# Altium integrated library NSC Audio.IntLib: 304 symbols (part 5 of 8)
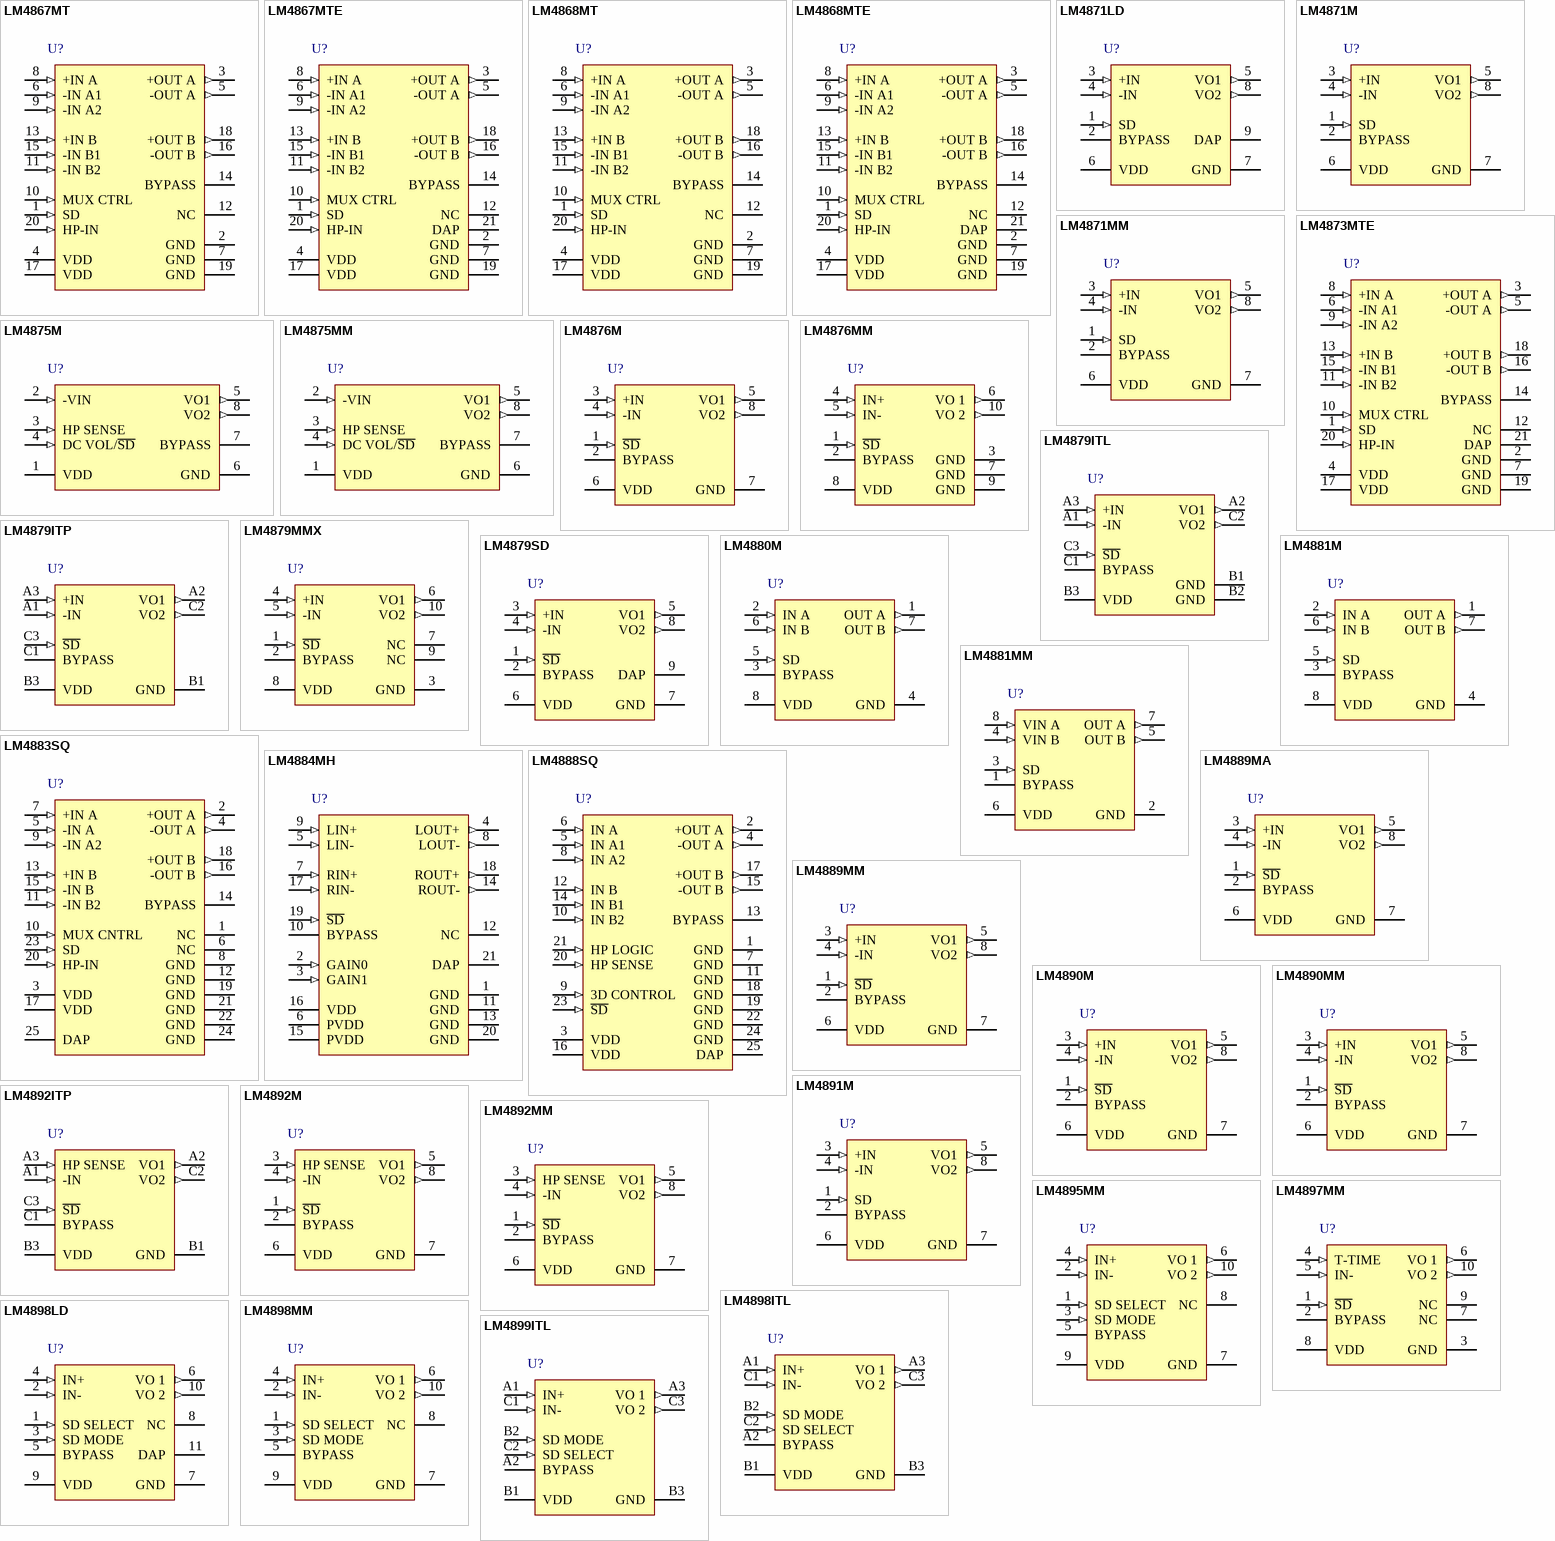
[diagram p16: symbols LM4867MT to LM4899ITL]

## LM4888SQ
designator U?
Dual 2.1W Audio Amplifier Plus Stereo Headphone &amp; 3D Enhancement; PartNumber: LM4888SQ; Manufacturer: National Semiconductor; CompType: Audio IC; PackageTopMarking: NS*UZXYTT*L4888SQ; PowerWise: N; Published: 4-Dec-2008; DatasheetVersion: Mar-2006; PackageVersion: revA, Sep-2003; PackageReference: SQA24C; Publisher: Altium Limited; PackageDescription: LLP, Plastic, Quad, 4 x 4 x 0.8mm Body, 24 Lead, 0.5mm Pitch, No Pullback, Custom; RoHS: Y; PinCount: 24; DigiKeyPartNumber: LM4888SQCT-ND; Code_JEDEC: MO-220-WGGD-2; ComponentLink1Description: LM4888 Datasheet; ComponentLink1URL: http://www.national.com/ds/LM/LM4888.pdf; ComponentLink2Description: LM4888 Web Page; ComponentLink2URL: http://www.national.com/pf/LM/LM4888.html; ComponentLink3Description: SQA24C Package Page; ComponentLink3URL: http://www.national.com/packaging/folders/sqa24c.html
footprint SQA24C (QFN, 24-Leads, Body 4x4mm, Pitch 0.5mm, NSC Recommended)
pins: 1 GND (power), 2 +OUT A (out), 3 VDD (power), 4 -OUT A (out), 5 IN A1 (in), 6 IN A (in), 7 GND (power), 8 IN A2 (in), 9 3D CONTROL (in), 10 IN B2 (in), 11 GND (power), 12 IN B (in), 13 BYPASS, 14 IN B1 (in), 15 -OUT B (out), 16 VDD (power), 17 +OUT B (out), 18 GND (power), 19 GND (power), 20 HP SENSE (in), 21 HP LOGIC (in), 22 GND (power), 23 ~{SD} (in), 24 GND (power), 25 DAP (power)

## LM4889MA
designator U?
1 Watt Audio Power Amplifier; PartNumber: LM4889MA; Manufacturer: National Semiconductor; CompType: Audio IC; PackageTopMarking: NSZXTT*LM48*89MA; PowerWise: N; Published: 4-Dec-2008; DatasheetVersion: Nov-2006; PackageVersion: revL, Sep-2006; PackageReference: M08A; Publisher: Altium Limited; PackageDescription: SOIC Narrow, 4.9 x 3.9 x 1.45mm, 8 Lead, 1.27mm Pitch; RoHS: Y; PinCount: 8; DigiKeyPartNumber: LM4889MA-ND; Code_JEDEC: MS-012-AA; Code_IPC: SOIC127P600-8; ComponentLink1Description: LM4889 Datasheet; ComponentLink1URL: http://www.national.com/ds/LM/LM4889.pdf; ComponentLink2Description: LM4889 Web Page; ComponentLink2URL: http://www.national.com/pf/LM/LM4889.html; ComponentLink3Description: M08A Package Page; ComponentLink3URL: http://www.national.com/packaging/folders/m08a.html
footprint M08A_N (SOIC, 8-Leads, Body 4.9x3.9mm, Pitch 1.27mm, IPC Medium Density)
footprint M08A_L (SOIC, 8-Leads, Body 4.9x3.9mm, Pitch 1.27mm, IPC High Density)
footprint M08A_M (SOIC, 8-Leads, Body 4.9x3.9mm, Pitch 1.27mm, IPC Low Density)
pins: 1 ~{SD} (in), 2 BYPASS, 3 +IN (in), 4 -IN (in), 5 VO1 (out), 6 VDD (power), 7 GND (power), 8 VO2 (out)

## LM4889MM
designator U?
1 Watt Audio Power Amplifier; PartNumber: LM4889MM; Manufacturer: National Semiconductor; CompType: Audio IC; PackageTopMarking: ZXTT*GA2; PowerWise: N; Published: 4-Dec-2008; DatasheetVersion: Nov-2006; PackageVersion: revF, Apr-2008; PackageReference: MUA08A; Publisher: Altium Limited; PackageDescription: MINI SOIC, .118 x .118 x .034in, 8 Lead, .0256in Pitch; RoHS: O; PinCount: 8; DigiKeyPartNumber: LM4889MMCT-ND; Code_JEDEC: MO-187-AA; ComponentLink1Description: LM4889 Datasheet; ComponentLink1URL: http://www.national.com/ds/LM/LM4889.pdf; ComponentLink2Description: LM4889 Web Page; ComponentLink2URL: http://www.national.com/pf/LM/LM4889.html; ComponentLink3Description: MUA08A Package Page; ComponentLink3URL: http://www.national.com/packaging/folders/mua08a.html
footprint MUA08A_N (TSOP, 8-Leads, Body 3x3mm, Pitch 0.65mm, IPC Medium Density)
footprint MUA08A_L (TSOP, 8-Leads, Body 3x3mm, Pitch 0.65mm, IPC High Density)
footprint MUA08A_M (TSOP, 8-Leads, Body 3x3mm, Pitch 0.65mm, IPC Low Density)
pins: 1 ~{SD} (in), 2 BYPASS, 3 +IN (in), 4 -IN (in), 5 VO1 (out), 6 VDD (power), 7 GND (power), 8 VO2 (out)

## LM4890M
designator U?
1 Watt Audio Power Amplifier; PartNumber: LM4890M; Manufacturer: National Semiconductor; CompType: Audio IC; PackageTopMarking: NSZXTT*LM48*90M; PowerWise: N; Published: 4-Dec-2008; DatasheetVersion: Jul-2006; PackageVersion: revL, Sep-2006; PackageReference: M08A; Publisher: Altium Limited; PackageDescription: SOIC Narrow, 4.9 x 3.9 x 1.45mm, 8 Lead, 1.27mm Pitch; RoHS: O; PinCount: 8; DigiKeyPartNumber: LM4890M-ND; Code_JEDEC: MS-012-AA; Code_IPC: SOIC127P600-8; ComponentLink1Description: LM4890 Datasheet; ComponentLink1URL: http://www.national.com/ds/LM/LM4890.pdf; ComponentLink2Description: LM4890 Web Page; ComponentLink2URL: http://www.national.com/pf/LM/LM4890.html; ComponentLink3Description: M08A Package Page; ComponentLink3URL: http://www.national.com/packaging/folders/m08a.html
footprint M08A_N (SOIC, 8-Leads, Body 4.9x3.9mm, Pitch 1.27mm, IPC Medium Density)
footprint M08A_L (SOIC, 8-Leads, Body 4.9x3.9mm, Pitch 1.27mm, IPC High Density)
footprint M08A_M (SOIC, 8-Leads, Body 4.9x3.9mm, Pitch 1.27mm, IPC Low Density)
pins: 1 ~{SD} (in), 2 BYPASS, 3 +IN (in), 4 -IN (in), 5 VO1 (out), 6 VDD (power), 7 GND (power), 8 VO2 (out)

## LM4890MM
designator U?
1 Watt Audio Power Amplifier; PartNumber: LM4890MM; Manufacturer: National Semiconductor; CompType: Audio IC; PackageTopMarking: ZXTT*G90; PowerWise: N; Published: 4-Dec-2008; DatasheetVersion: Jul-2006; PackageVersion: revF, Apr-2008; PackageReference: MUA08A; Publisher: Altium Limited; PackageDescription: MINI SOIC, .118 x .118 x .034in, 8 Lead, .0256in Pitch; RoHS: Y; PinCount: 8; DigiKeyPartNumber: LM4890MMCT-ND; Code_JEDEC: MO-187-AA; ComponentLink1Description: LM4890 Datasheet; ComponentLink1URL: http://www.national.com/ds/LM/LM4890.pdf; ComponentLink2Description: LM4890 Web Page; ComponentLink2URL: http://www.national.com/pf/LM/LM4890.html; ComponentLink3Description: MUA08A Package Page; ComponentLink3URL: http://www.national.com/packaging/folders/mua08a.html
footprint MUA08A_N (TSOP, 8-Leads, Body 3x3mm, Pitch 0.65mm, IPC Medium Density)
footprint MUA08A_L (TSOP, 8-Leads, Body 3x3mm, Pitch 0.65mm, IPC High Density)
footprint MUA08A_M (TSOP, 8-Leads, Body 3x3mm, Pitch 0.65mm, IPC Low Density)
pins: 1 ~{SD} (in), 2 BYPASS, 3 +IN (in), 4 -IN (in), 5 VO1 (out), 6 VDD (power), 7 GND (power), 8 VO2 (out)

## LM4891M
designator U?
1 Watt Audio Power Amplifier; PartNumber: LM4891M; Manufacturer: National Semiconductor; CompType: Audio IC; PackageTopMarking: NSZXTT*LM48*91M; PowerWise: N; Published: 4-Dec-2008; DatasheetVersion: Oct-2002; PackageVersion: revL, Sep-2006; PackageReference: M08A; Publisher: Altium Limited; PackageDescription: SOIC Narrow, 4.9 x 3.9 x 1.45mm, 8 Lead, 1.27mm Pitch; RoHS: Y; PinCount: 8; DigiKeyPartNumber: LM4891M-ND; Code_JEDEC: MS-012-AA; Code_IPC: SOIC127P600-8; ComponentLink1Description: LM4891 Datasheet; ComponentLink1URL: http://www.national.com/ds/LM/LM4891.pdf; ComponentLink2Description: LM4891 Web Page; ComponentLink2URL: http://www.national.com/pf/LM/LM4891.html; ComponentLink3Description: M08A Package Page; ComponentLink3URL: http://www.national.com/packaging/folders/m08a.html
footprint M08A_N (SOIC, 8-Leads, Body 4.9x3.9mm, Pitch 1.27mm, IPC Medium Density)
footprint M08A_L (SOIC, 8-Leads, Body 4.9x3.9mm, Pitch 1.27mm, IPC High Density)
footprint M08A_M (SOIC, 8-Leads, Body 4.9x3.9mm, Pitch 1.27mm, IPC Low Density)
pins: 1 SD (in), 2 BYPASS, 3 +IN (in), 4 -IN (in), 5 VO1 (out), 6 VDD (power), 7 GND (power), 8 VO2 (out)

## LM4892ITP
designator U?
1 Watt Audio Power Amplifier with Headphone Sense; PartNumber: LM4892ITP; Manufacturer: National Semiconductor; CompType: Audio IC; PackageTopMarking: XVG*I E1; PowerWise: N; Published: 4-Dec-2008; DatasheetVersion: Oct-2002; PackageVersion: revA, Mar-2002; PackageReference: TPA08DDA; Publisher: Altium Limited; PackageDescription: Thin Micro SMD, 8 Bump, 0.5mm Pitch; RoHS: Y; PinCount: 8; DigiKeyPartNumber: LM4892ITPCT-ND; Code_JEDEC: MO-211-BC; ComponentLink1Description: LM4892 Datasheet; ComponentLink1URL: http://www.national.com/ds/LM/LM4892.pdf; ComponentLink2Description: LM4892 Web Page; ComponentLink2URL: http://www.national.com/pf/LM/LM4892.html; ComponentLink3Description: TPA08DDA Package Page; ComponentLink3URL: http://www.national.com/packaging/folders/tpa08dda.html
footprint TPA08DDA (Micro SMD, 8-Leads, Body 1.36x1.36mm, Pitch 0.5mm, NSC Recommended)
pins: A1 -IN (in), A2 VO1 (out), A3 HP SENSE (in), B1 GND (power), B3 VDD (power), C1 BYPASS, C2 VO2 (out), C3 ~{SD} (in)

## LM4892M
designator U?
1 Watt Audio Power Amplifier with Headphone Sense; PartNumber: LM4892M; Manufacturer: National Semiconductor; CompType: Audio IC; PackageTopMarking: NSZXTT*LM48*92M; PowerWise: N; Published: 4-Dec-2008; DatasheetVersion: Oct-2002; PackageVersion: revL, Sep-2006; PackageReference: M08A; Publisher: Altium Limited; PackageDescription: SOIC Narrow, 4.9 x 3.9 x 1.45mm, 8 Lead, 1.27mm Pitch; RoHS: Y; PinCount: 8; DigiKeyPartNumber: LM4892M-ND; Code_JEDEC: MS-012-AA; Code_IPC: SOIC127P600-8; ComponentLink1Description: LM4892 Datasheet; ComponentLink1URL: http://www.national.com/ds/LM/LM4892.pdf; ComponentLink2Description: LM4892 Web Page; ComponentLink2URL: http://www.national.com/pf/LM/LM4892.html; ComponentLink3Description: M08A Package Page; ComponentLink3URL: http://www.national.com/packaging/folders/m08a.html
footprint M08A_N (SOIC, 8-Leads, Body 4.9x3.9mm, Pitch 1.27mm, IPC Medium Density)
footprint M08A_L (SOIC, 8-Leads, Body 4.9x3.9mm, Pitch 1.27mm, IPC High Density)
footprint M08A_M (SOIC, 8-Leads, Body 4.9x3.9mm, Pitch 1.27mm, IPC Low Density)
pins: 1 ~{SD} (in), 2 BYPASS, 3 HP SENSE (in), 4 -IN (in), 5 VO1 (out), 6 VDD (power), 7 GND (power), 8 VO2 (out)

## LM4892MM
designator U?
1 Watt Audio Power Amplifier with Headphone Sense; PartNumber: LM4892MM; Manufacturer: National Semiconductor; CompType: Audio IC; PackageTopMarking: ZXTT*G92; PowerWise: N; Published: 4-Dec-2008; DatasheetVersion: Oct-2002; PackageVersion: revF, Apr-2008; PackageReference: MUA08A; Publisher: Altium Limited; PackageDescription: MINI SOIC, .118 x .118 x .034in, 8 Lead, .0256in Pitch; RoHS: Y; PinCount: 8; DigiKeyPartNumber: LM4892MMCT-ND; Code_JEDEC: MO-187-AA; ComponentLink1Description: LM4892 Datasheet; ComponentLink1URL: http://www.national.com/ds/LM/LM4892.pdf; ComponentLink2Description: LM4892 Web Page; ComponentLink2URL: http://www.national.com/pf/LM/LM4892.html; ComponentLink3Description: MUA08A Package Page; ComponentLink3URL: http://www.national.com/packaging/folders/mua08a.html
footprint MUA08A_N (TSOP, 8-Leads, Body 3x3mm, Pitch 0.65mm, IPC Medium Density)
footprint MUA08A_L (TSOP, 8-Leads, Body 3x3mm, Pitch 0.65mm, IPC High Density)
footprint MUA08A_M (TSOP, 8-Leads, Body 3x3mm, Pitch 0.65mm, IPC Low Density)
pins: 1 ~{SD} (in), 2 BYPASS, 3 HP SENSE (in), 4 -IN (in), 5 VO1 (out), 6 VDD (power), 7 GND (power), 8 VO2 (out)

## LM4895MM
designator U?
1 Watt Fully Differential Audio Power Amplifier With Shutdown Select and Fixed 6dB Gain; PartNumber: LM4895MM; Manufacturer: National Semiconductor; CompType: Audio IC; PackageTopMarking: ZXTT*G95; PowerWise: N; Published: 4-Dec-2008; DatasheetVersion: Oct-2002; PackageVersion: revB, Jul-2003; PackageReference: MUB10A; Publisher: Altium Limited; PackageDescription: Mini-SO, Molded, .118 x .118 x .034in Body, 10 Lead, .0197in Pitch; RoHS: Y; PinCount: 10; DigiKeyPartNumber: LM4895MMCT-ND; Code_JEDEC: MO-187-BA; ComponentLink1Description: LM4895 Datasheet; ComponentLink1URL: http://www.national.com/ds/LM/LM4895.pdf; ComponentLink2Description: LM4895 Web Page; ComponentLink2URL: http://www.national.com/pf/LM/LM4895.html; ComponentLink3Description: MUB10A Package Page; ComponentLink3URL: http://www.national.com/packaging/folders/mub10a.html
footprint MUB10A_N (TSSOP, 10-Leads, Body 3x3mm, Pitch 0.5mm, IPC Medium Density)
footprint MUB10A_L (TSSOP, 10-Leads, Body 3x3mm, Pitch 0.5mm, IPC High Density)
footprint MUB10A_M (TSSOP, 10-Leads, Body 3x3mm, Pitch 0.5mm, IPC Low Density)
pins: 1 SD SELECT (in), 2 IN- (in), 3 SD MODE (in), 4 IN+ (in), 5 BYPASS, 6 VO 1 (out), 7 GND (power), 8 NC, 9 VDD (power), 10 VO 2 (out)

## LM4897MM
designator U?
1.1 Watt Audio Power Amplifier with Fade-In and Fade-Out; PartNumber: LM4897MM; Manufacturer: National Semiconductor; CompType: Audio IC; PackageTopMarking: ZXTT*G97; Published: 4-Dec-2008; DatasheetVersion: May-2003; PackageVersion: revB, Jul-2003; PackageReference: MUB10A; Publisher: Altium Limited; PackageDescription: Mini-SO, Molded, .118 x .118 x .034in Body, 10 Lead, .0197in Pitch; RoHS: Y; PinCount: 10; DigiKeyPartNumber: LM4897MMCT-ND; Code_JEDEC: MO-187-BA; ComponentLink1Description: LM4897 Datasheet; ComponentLink1URL: http://www.national.com/ds/LM/LM4897.pdf; ComponentLink2Description: LM4897 Web Page; ComponentLink2URL: http://www.national.com/pf/LM/LM4897.html; ComponentLink3Description: MUB10A Package Page; ComponentLink3URL: http://www.national.com/packaging/folders/mub10a.html
footprint MUB10A_N (TSSOP, 10-Leads, Body 3x3mm, Pitch 0.5mm, IPC Medium Density)
footprint MUB10A_L (TSSOP, 10-Leads, Body 3x3mm, Pitch 0.5mm, IPC High Density)
footprint MUB10A_M (TSSOP, 10-Leads, Body 3x3mm, Pitch 0.5mm, IPC Low Density)
pins: 1 ~{SD} (in), 2 BYPASS, 3 GND (power), 4 T-TIME (in), 5 IN- (in), 6 VO 1 (out), 7 NC, 8 VDD (power), 9 NC, 10 VO 2 (out)

## LM4898ITL
designator U?
1 Watt Fully Differential Audio Power Amplifier With Shutdown Select; PartNumber: LM4898ITL; Manufacturer: National Semiconductor; CompType: Audio IC; PackageTopMarking: XVG*I C3; PowerWise: N; Published: 4-Dec-2008; DatasheetVersion: Jul-2003; PackageVersion: revC, Jan-2004; PackageReference: TLA09AAA; Publisher: Altium Limited; PackageDescription: Thin Micro SMD, 9 Bump (Large), 0.5mm Pitch; RoHS: Y; PinCount: 9; DigiKeyPartNumber: LM4898ITL-ND; Code_JEDEC: MO-211-DD; ComponentLink1Description: LM4898 Datasheet; ComponentLink1URL: http://www.national.com/ds/LM/LM4898.pdf; ComponentLink2Description: LM4898 Web Page; ComponentLink2URL: http://www.national.com/pf/LM/LM4898.html; ComponentLink3Description: TLA09AAA Package Page; ComponentLink3URL: http://www.national.com/packaging/folders/tla09aaa.html
footprint TLA09AAA (Micro SMD, 9-Leads, Body 1.52x1.52mm, Pitch 0.5mm, NSC Recommended)
pins: A1 IN+ (in), A2 BYPASS, A3 VO 1 (out), B1 VDD (power), B2 SD MODE (in), B3 GND (power), C1 IN- (in), C2 SD SELECT (in), C3 VO 2 (out)

## LM4898LD
designator U?
1 Watt Fully Differential Audio Power Amplifier With Shutdown Select; PartNumber: LM4898LD; Manufacturer: National Semiconductor; CompType: Audio IC; PackageTopMarking: ZXYTT*L4898; PowerWise: N; Published: 4-Dec-2008; DatasheetVersion: Jul-2003; PackageVersion: revB, Jun-2003; PackageReference: LDA10B; Publisher: Altium Limited; PackageDescription: LLP, Plastic, Dual, 3 x 4 x 0.75mm Body, 10 Lead, 0.5mm Pitch; RoHS: Y; PinCount: 10; DigiKeyPartNumber: LM4898LDCT-ND; Code_JEDEC: MO-229-WEGD; ComponentLink1Description: LM4898 Datasheet; ComponentLink1URL: http://www.national.com/ds/LM/LM4898.pdf; ComponentLink2Description: LM4898 Web Page; ComponentLink2URL: http://www.national.com/pf/LM/LM4898.html; ComponentLink3Description: LDA10B Package Page; ComponentLink3URL: http://www.national.com/packaging/folders/lda10b.html
footprint LDA10B (PSON, 10-Leads, Body 3x4mm, Pitch 0.5mm, NSC Recommended)
pins: 1 SD SELECT (in), 2 IN- (in), 3 SD MODE (in), 4 IN+ (in), 5 BYPASS, 6 VO 1 (out), 7 GND (power), 8 NC, 9 VDD (power), 10 VO 2 (out), 11 DAP (power)

## LM4898MM
designator U?
1 Watt Fully Differential Audio Power Amplifier With Shutdown Select; PartNumber: LM4898MM; Manufacturer: National Semiconductor; CompType: Audio IC; PackageTopMarking: ZXTT*GB3; PowerWise: N; Published: 4-Dec-2008; DatasheetVersion: Jul-2003; PackageVersion: revB, Jul-2003; PackageReference: MUB10A; Publisher: Altium Limited; PackageDescription: Mini-SO, Molded, .118 x .118 x .034in Body, 10 Lead, .0197in Pitch; RoHS: O; PinCount: 10; DigiKeyPartNumber: LM4898MMCT-ND; Code_JEDEC: MO-187-BA; ComponentLink1Description: LM4898 Datasheet; ComponentLink1URL: http://www.national.com/ds/LM/LM4898.pdf; ComponentLink2Description: LM4898 Web Page; ComponentLink2URL: http://www.national.com/pf/LM/LM4898.html; ComponentLink3Description: MUB10A Package Page; ComponentLink3URL: http://www.national.com/packaging/folders/mub10a.html
footprint MUB10A_N (TSSOP, 10-Leads, Body 3x3mm, Pitch 0.5mm, IPC Medium Density)
footprint MUB10A_L (TSSOP, 10-Leads, Body 3x3mm, Pitch 0.5mm, IPC High Density)
footprint MUB10A_M (TSSOP, 10-Leads, Body 3x3mm, Pitch 0.5mm, IPC Low Density)
pins: 1 SD SELECT (in), 2 IN- (in), 3 SD MODE (in), 4 IN+ (in), 5 BYPASS, 6 VO 1 (out), 7 GND (power), 8 NC, 9 VDD (power), 10 VO 2 (out)

## LM4899ITL
designator U?
1 Watt Fully Differential Audio Power Amplifier With Shutdown Select and Fixed 6dB Gain; PartNumber: LM4899ITL; Manufacturer: National Semiconductor; CompType: Audio IC; PackageTopMarking: XVG*I C1; PowerWise: N; Published: 4-Dec-2008; DatasheetVersion: Jul-2003; PackageVersion: revC, Jan-2004; PackageReference: TLA09AAA; Publisher: Altium Limited; PackageDescription: Thin Micro SMD, 9 Bump (Large), 0.5mm Pitch; RoHS: Y; PinCount: 9; DigiKeyPartNumber: LM4899ITL-ND; Code_JEDEC: MO-211-DD; ComponentLink1Description: LM4899 Datasheet; ComponentLink1URL: http://www.national.com/ds/LM/LM4899.pdf; ComponentLink2Description: LM4899 Web Page; ComponentLink2URL: http://www.national.com/pf/LM/LM4899.html; ComponentLink3Description: TLA09AAA Package Page; ComponentLink3URL: http://www.national.com/packaging/folders/tla09aaa.html
footprint TLA09AAA (Micro SMD, 9-Leads, Body 1.52x1.52mm, Pitch 0.5mm, NSC Recommended)
pins: A1 IN+ (in), A2 BYPASS, A3 VO 1 (out), B1 VDD (power), B2 SD MODE (in), B3 GND (power), C1 IN- (in), C2 SD SELECT (in), C3 VO 2 (out)

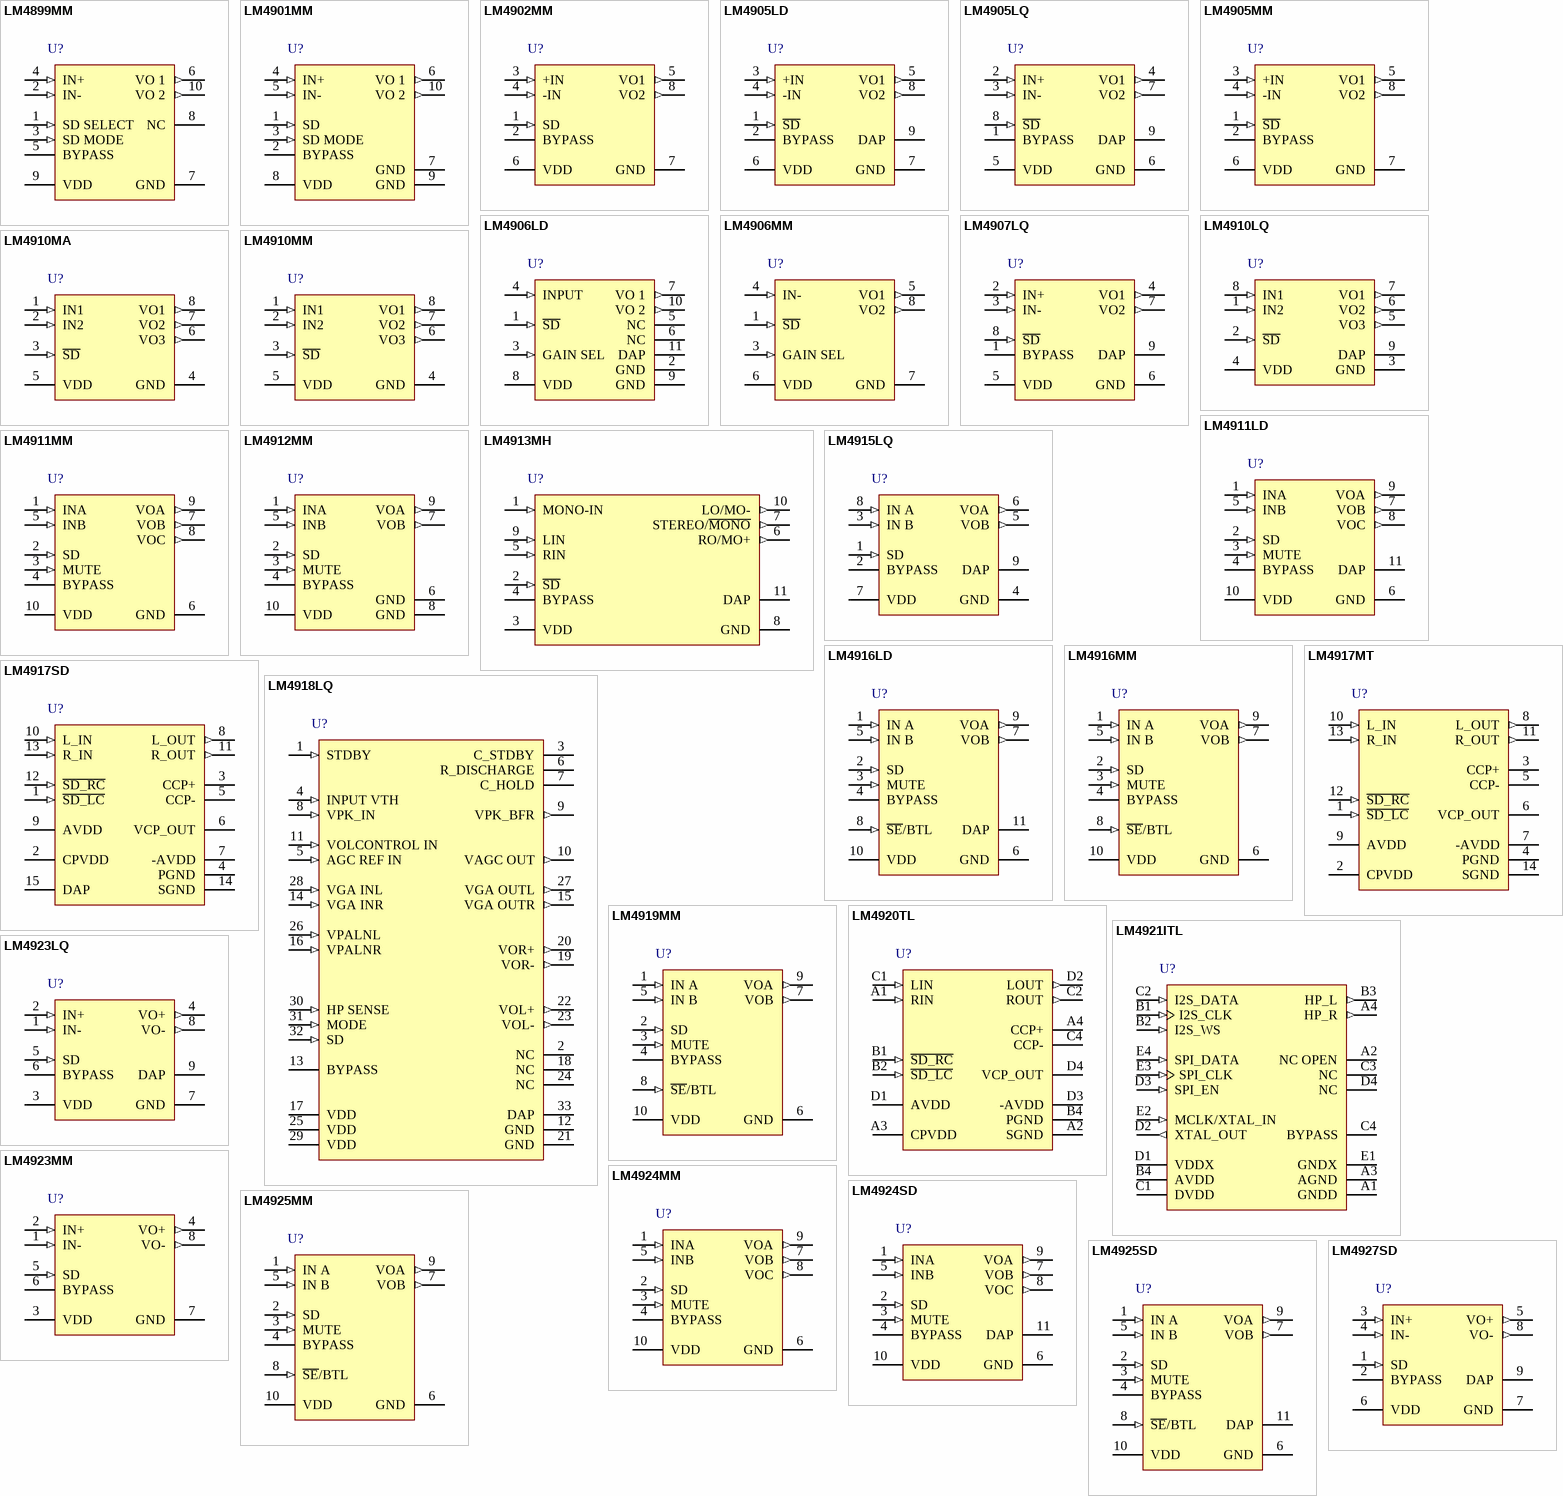
[diagram p7: symbols LM4899MM to LM4927SD]

## LM4899MM
designator U?
1 Watt Fully Differential Audio Power Amplifier With Shutdown Select and Fixed 6dB Gain; PartNumber: LM4899MM; Manufacturer: National Semiconductor; CompType: Audio IC; PackageTopMarking: ZXTT*GB2; PowerWise: N; Published: 4-Dec-2008; DatasheetVersion: Jul-2003; PackageVersion: revB, Jul-2003; PackageReference: MUB10A; Publisher: Altium Limited; PackageDescription: Mini-SO, Molded, .118 x .118 x .034in Body, 10 Lead, .0197in Pitch; RoHS: Y; PinCount: 10; DigiKeyPartNumber: LM4899MMCT-ND; Code_JEDEC: MO-187-BA; ComponentLink1Description: LM4899 Datasheet; ComponentLink1URL: http://www.national.com/ds/LM/LM4899.pdf; ComponentLink2Description: LM4899 Web Page; ComponentLink2URL: http://www.national.com/pf/LM/LM4899.html; ComponentLink3Description: MUB10A Package Page; ComponentLink3URL: http://www.national.com/packaging/folders/mub10a.html
footprint MUB10A_N (TSSOP, 10-Leads, Body 3x3mm, Pitch 0.5mm, IPC Medium Density)
footprint MUB10A_L (TSSOP, 10-Leads, Body 3x3mm, Pitch 0.5mm, IPC High Density)
footprint MUB10A_M (TSSOP, 10-Leads, Body 3x3mm, Pitch 0.5mm, IPC Low Density)
pins: 1 SD SELECT (in), 2 IN- (in), 3 SD MODE (in), 4 IN+ (in), 5 BYPASS, 6 VO 1 (out), 7 GND (power), 8 NC, 9 VDD (power), 10 VO 2 (out)

## LM4901MM
designator U?
1.6 Watt Audio Power Amplifier with Selectable Shutdown Logic Level; PartNumber: LM4901MM; Manufacturer: National Semiconductor; CompType: Audio IC; PackageTopMarking: ZXTT*GC1; Published: 4-Dec-2008; DatasheetVersion: Jul-2006; PackageVersion: revB, Jul-2003; PackageReference: MUB10A; Publisher: Altium Limited; PackageDescription: Mini-SO, Molded, .118 x .118 x .034in Body, 10 Lead, .0197in Pitch; RoHS: Y; PinCount: 10; DigiKeyPartNumber: LM4901MMCT-ND; Code_JEDEC: MO-187-BA; ComponentLink1Description: LM4901 Datasheet; ComponentLink1URL: http://www.national.com/ds/LM/LM4901.pdf; ComponentLink2Description: LM4901 Web Page; ComponentLink2URL: http://www.national.com/pf/LM/LM4901.html; ComponentLink3Description: MUB10A Package Page; ComponentLink3URL: http://www.national.com/packaging/folders/mub10a.html
footprint MUB10A_N (TSSOP, 10-Leads, Body 3x3mm, Pitch 0.5mm, IPC Medium Density)
footprint MUB10A_L (TSSOP, 10-Leads, Body 3x3mm, Pitch 0.5mm, IPC High Density)
footprint MUB10A_M (TSSOP, 10-Leads, Body 3x3mm, Pitch 0.5mm, IPC Low Density)
pins: 1 SD (in), 2 BYPASS, 3 SD MODE (in), 4 IN+ (in), 5 IN- (in), 6 VO 1 (out), 7 GND (power), 8 VDD (power), 9 GND (power), 10 VO 2 (out)

## LM4902MM
designator U?
265mW at 3.3V Supply Audio Power Amplifier with Shutdown Mode; PartNumber: LM4902MM; Manufacturer: National Semiconductor; CompType: Audio IC; PackageTopMarking: ZXTT*GC3; PowerWise: N; Published: 4-Dec-2008; DatasheetVersion: Feb-2002; PackageVersion: revF, Apr-2008; PackageReference: MUA08A; Publisher: Altium Limited; PackageDescription: MINI SOIC, .118 x .118 x .034in, 8 Lead, .0256in Pitch; RoHS: Y; PinCount: 8; DigiKeyPartNumber: LM4902MMCT-ND; Code_JEDEC: MO-187-AA; ComponentLink1Description: LM4902 Datasheet; ComponentLink1URL: http://www.national.com/ds/LM/LM4902.pdf; ComponentLink2Description: LM4902 Web Page; ComponentLink2URL: http://www.national.com/pf/LM/LM4902.html; ComponentLink3Description: MUA08A Package Page; ComponentLink3URL: http://www.national.com/packaging/folders/mua08a.html
footprint MUA08A_N (TSOP, 8-Leads, Body 3x3mm, Pitch 0.65mm, IPC Medium Density)
footprint MUA08A_L (TSOP, 8-Leads, Body 3x3mm, Pitch 0.65mm, IPC High Density)
footprint MUA08A_M (TSOP, 8-Leads, Body 3x3mm, Pitch 0.65mm, IPC Low Density)
pins: 1 SD (in), 2 BYPASS, 3 +IN (in), 4 -IN (in), 5 VO1 (out), 6 VDD (power), 7 GND (power), 8 VO2 (out)

## LM4905LD
designator U?
1 Watt Audio Power Amplifier; PartNumber: LM4905LD; Manufacturer: National Semiconductor; CompType: Audio IC; PackageTopMarking: ZXYTT*L4905; Published: 4-Dec-2008; DatasheetVersion: Jul-2003; PackageVersion: revC, Nov-2002; PackageReference: LDA08A; Publisher: Altium Limited; PackageDescription: LLP, Plastic, Dual, 3 x 3 x 0.75mm Body, 8 Lead, 0.5mm Pitch; RoHS: Y; PinCount: 8; DigiKeyPartNumber: LM4905LDCT-ND; ComponentLink1Description: LM4905 Datasheet; ComponentLink1URL: http://www.national.com/ds/LM/LM4905.pdf; ComponentLink2Description: LM4905 Web Page; ComponentLink2URL: http://www.national.com/pf/LM/LM4905.html; ComponentLink3Description: LDA08A Package Page; ComponentLink3URL: http://www.national.com/packaging/folders/lda08a.html
footprint LDA08A (PSON, 8-Leads, Body 3x3mm, Pitch 0.5mm, NSC Recommended)
pins: 1 ~{SD} (in), 2 BYPASS, 3 +IN (in), 4 -IN (in), 5 VO1 (out), 6 VDD (power), 7 GND (power), 8 VO2 (out), 9 DAP (power)

## LM4905LQ
designator U?
1 Watt Audio Power Amplifier; PartNumber: LM4905LQ; Manufacturer: National Semiconductor; CompType: Audio IC; PackageTopMarking: XTT*GA6; Published: 4-Dec-2008; DatasheetVersion: Jul-2003; PackageVersion: revB, Nov-2002; PackageReference: LQB08A; Publisher: Altium Limited; PackageDescription: LLP, Plastic, Quad, 2 x 2 x 0.75mm Body, 8 Lead, 0.65mm Pitch; RoHS: Y; PinCount: 8; DigiKeyPartNumber: LM4905LQCT-ND; ComponentLink1Description: LM4905 Datasheet; ComponentLink1URL: http://www.national.com/ds/LM/LM4905.pdf; ComponentLink2Description: LM4905 Web Page; ComponentLink2URL: http://www.national.com/pf/LM/LM4905.html; ComponentLink3Description: LQB08A Package Page; ComponentLink3URL: http://www.national.com/packaging/folders/lqb08a.html
footprint LQB08A (PQFN, 8-Leads, Body 2x2mm, Pitch 0.65mm, NSC Recommended)
pins: 1 BYPASS, 2 IN+ (in), 3 IN- (in), 4 VO1 (out), 5 VDD (power), 6 GND (power), 7 VO2 (out), 8 ~{SD} (in), 9 DAP (power)

## LM4905MM
designator U?
1 Watt Audio Power Amplifier; PartNumber: LM4905MM; Manufacturer: National Semiconductor; CompType: Audio IC; PackageTopMarking: ZXTT*GB4; Published: 4-Dec-2008; DatasheetVersion: Jul-2003; PackageVersion: revF, Apr-2008; PackageReference: MUA08A; Publisher: Altium Limited; PackageDescription: MINI SOIC, .118 x .118 x .034in, 8 Lead, .0256in Pitch; RoHS: Y; PinCount: 8; DigiKeyPartNumber: LM4905MMCT-ND; Code_JEDEC: MO-187-AA; ComponentLink1Description: LM4905 Datasheet; ComponentLink1URL: http://www.national.com/ds/LM/LM4905.pdf; ComponentLink2Description: LM4905 Web Page; ComponentLink2URL: http://www.national.com/pf/LM/LM4905.html; ComponentLink3Description: MUA08A Package Page; ComponentLink3URL: http://www.national.com/packaging/folders/mua08a.html
footprint MUA08A_N (TSOP, 8-Leads, Body 3x3mm, Pitch 0.65mm, IPC Medium Density)
footprint MUA08A_L (TSOP, 8-Leads, Body 3x3mm, Pitch 0.65mm, IPC High Density)
footprint MUA08A_M (TSOP, 8-Leads, Body 3x3mm, Pitch 0.65mm, IPC Low Density)
pins: 1 ~{SD} (in), 2 BYPASS, 3 +IN (in), 4 -IN (in), 5 VO1 (out), 6 VDD (power), 7 GND (power), 8 VO2 (out)

## LM4906LD
designator U?
1W, Bypass-Capacitor-less Audio Power Amplifier with Internal Selectable Gain; PartNumber: LM4906LD; Manufacturer: National Semiconductor; CompType: Audio IC; PackageTopMarking: ZXYTT*L4906; Published: 4-Dec-2008; DatasheetVersion: Jan-2005; PackageVersion: revB, Jun-2003; PackageReference: LDA10B; Publisher: Altium Limited; PackageDescription: LLP, Plastic, Dual, 3 x 4 x 0.75mm Body, 10 Lead, 0.5mm Pitch; RoHS: Y; PinCount: 10; DigiKeyPartNumber: LM4906LDCT-ND; Code_JEDEC: MO-229-WEGD; ComponentLink1Description: LM4906 Datasheet; ComponentLink1URL: http://www.national.com/ds/LM/LM4906.pdf; ComponentLink2Description: LM4906 Web Page; ComponentLink2URL: http://www.national.com/pf/LM/LM4906.html; ComponentLink3Description: LDA10B Package Page; ComponentLink3URL: http://www.national.com/packaging/folders/lda10b.html
footprint LDA10B (PSON, 10-Leads, Body 3x4mm, Pitch 0.5mm, NSC Recommended)
pins: 1 ~{SD} (in), 2 GND (power), 3 GAIN SEL (in), 4 INPUT (in), 5 NC, 6 NC, 7 VO 1 (out), 8 VDD (power), 9 GND (power), 10 VO 2 (out), 11 DAP (power)

## LM4906MM
designator U?
1W, Bypass-Capacitor-less Audio Power Amplifier with Internal Selectable Gain; PartNumber: LM4906MM; Manufacturer: National Semiconductor; CompType: Audio IC; PackageTopMarking: ZXTT*GA8; PowerWise: N; Published: 4-Dec-2008; DatasheetVersion: Jan-2005; PackageVersion: revF, Apr-2008; PackageReference: MUA08A; Publisher: Altium Limited; PackageDescription: MINI SOIC, .118 x .118 x .034in, 8 Lead, .0256in Pitch; RoHS: Y; PinCount: 8; DigiKeyPartNumber: LM4906MMCT-ND; Code_JEDEC: MO-187-AA; ComponentLink1Description: LM4906 Datasheet; ComponentLink1URL: http://www.national.com/ds/LM/LM4906.pdf; ComponentLink2Description: LM4906 Web Page; ComponentLink2URL: http://www.national.com/pf/LM/LM4906.html; ComponentLink3Description: MUA08A Package Page; ComponentLink3URL: http://www.national.com/packaging/folders/mua08a.html
footprint MUA08A_N (TSOP, 8-Leads, Body 3x3mm, Pitch 0.65mm, IPC Medium Density)
footprint MUA08A_L (TSOP, 8-Leads, Body 3x3mm, Pitch 0.65mm, IPC High Density)
footprint MUA08A_M (TSOP, 8-Leads, Body 3x3mm, Pitch 0.65mm, IPC Low Density)
pins: 1 ~{SD} (in), 3 GAIN SEL (in), 4 IN- (in), 5 VO1 (out), 6 VDD (power), 7 GND (power), 8 VO2 (out)

## LM4907LQ
designator U?
1 Watt Audio Power Amplifier; PartNumber: LM4907LQ; Manufacturer: National Semiconductor; CompType: Audio IC; PackageTopMarking: XTT*GA9; PowerWise: N; Published: 4-Dec-2008; DatasheetVersion: Apr-2005; PackageVersion: revB, Nov-2002; PackageReference: LQB08A; Publisher: Altium Limited; PackageDescription: LLP, Plastic, Quad, 2 x 2 x 0.75mm Body, 8 Lead, 0.65mm Pitch; RoHS: Y; PinCount: 8; DigiKeyPartNumber: LM4907LQCT-ND; ComponentLink1Description: LM4907 Datasheet; ComponentLink1URL: http://www.national.com/ds/LM/LM4907.pdf; ComponentLink2Description: LM4907 Web Page; ComponentLink2URL: http://www.national.com/pf/LM/LM4907.html; ComponentLink3Description: LQB08A Package Page; ComponentLink3URL: http://www.national.com/packaging/folders/lqb08a.html
footprint LQB08A (PQFN, 8-Leads, Body 2x2mm, Pitch 0.65mm, NSC Recommended)
pins: 1 BYPASS, 2 IN+ (in), 3 IN- (in), 4 VO1 (out), 5 VDD (power), 6 GND (power), 7 VO2 (out), 8 ~{SD} (in), 9 DAP (power)

## LM4910LQ
designator U?
LM4910 Output Capacitor-less Stereo 35mW Headphone Amplifier; PartNumber: LM4910LQ; Manufacturer: National Semiconductor; CompType: Audio IC; PackageTopMarking: XTT*GA4; PowerWise: N; Published: 4-Dec-2008; DatasheetVersion: Jan-2007; PackageVersion: revB, Nov-2002; PackageReference: LQB08A; Publisher: Altium Limited; PackageDescription: LLP, Plastic, Quad, 2 x 2 x 0.75mm Body, 8 Lead, 0.65mm Pitch; RoHS: Y; PinCount: 8; DigiKeyPartNumber: LM4910LQCT-ND; ComponentLink1Description: LM4910 Datasheet; ComponentLink1URL: http://www.national.com/ds/LM/LM4910.pdf; ComponentLink2Description: LM4910 Web Page; ComponentLink2URL: http://www.national.com/pf/LM/LM4910.html; ComponentLink3Description: LQB08A Package Page; ComponentLink3URL: http://www.national.com/packaging/folders/lqb08a.html
footprint LQB08A (PQFN, 8-Leads, Body 2x2mm, Pitch 0.65mm, NSC Recommended)
pins: 1 IN2 (in), 2 ~{SD} (in), 3 GND (power), 4 VDD (power), 5 VO3 (out), 6 VO2 (out), 7 VO1 (out), 8 IN1 (in), 9 DAP (power)

## LM4910MA
designator U?
LM4910 Output Capacitor-less Stereo 35mW Headphone Amplifier; PartNumber: LM4910MA; Manufacturer: National Semiconductor; CompType: Audio IC; PackageTopMarking: NSZXTT*LM49*10MA; Published: 4-Dec-2008; DatasheetVersion: Jan-2007; PackageVersion: revL, Sep-2006; PackageReference: M08A; Publisher: Altium Limited; PackageDescription: SOIC Narrow, 4.9 x 3.9 x 1.45mm, 8 Lead, 1.27mm Pitch; RoHS: Y; PinCount: 8; DigiKeyPartNumber: LM4910MA-ND; Code_JEDEC: MS-012-AA; Code_IPC: SOIC127P600-8; ComponentLink1Description: LM4910 Datasheet; ComponentLink1URL: http://www.national.com/ds/LM/LM4910.pdf; ComponentLink2Description: LM4910 Web Page; ComponentLink2URL: http://www.national.com/pf/LM/LM4910.html; ComponentLink3Description: M08A Package Page; ComponentLink3URL: http://www.national.com/packaging/folders/m08a.html
footprint M08A_N (SOIC, 8-Leads, Body 4.9x3.9mm, Pitch 1.27mm, IPC Medium Density)
footprint M08A_L (SOIC, 8-Leads, Body 4.9x3.9mm, Pitch 1.27mm, IPC High Density)
footprint M08A_M (SOIC, 8-Leads, Body 4.9x3.9mm, Pitch 1.27mm, IPC Low Density)
pins: 1 IN1 (in), 2 IN2 (in), 3 ~{SD} (in), 4 GND (power), 5 VDD (power), 6 VO3 (out), 7 VO2 (out), 8 VO1 (out)

## LM4910MM
designator U?
LM4910 Output Capacitor-less Stereo 35mW Headphone Amplifier; PartNumber: LM4910MM; Manufacturer: National Semiconductor; CompType: Audio IC; PackageTopMarking: ZXTT*GC2; PowerWise: N; Published: 4-Dec-2008; DatasheetVersion: Jan-2007; PackageVersion: revF, Apr-2008; PackageReference: MUA08A; Publisher: Altium Limited; PackageDescription: MINI SOIC, .118 x .118 x .034in, 8 Lead, .0256in Pitch; RoHS: O; PinCount: 8; DigiKeyPartNumber: LM4910MMCT-ND; Code_JEDEC: MO-187-AA; ComponentLink1Description: LM4910 Datasheet; ComponentLink1URL: http://www.national.com/ds/LM/LM4910.pdf; ComponentLink2Description: LM4910 Web Page; ComponentLink2URL: http://www.national.com/pf/LM/LM4910.html; ComponentLink3Description: MUA08A Package Page; ComponentLink3URL: http://www.national.com/packaging/folders/mua08a.html
footprint MUA08A_N (TSOP, 8-Leads, Body 3x3mm, Pitch 0.65mm, IPC Medium Density)
footprint MUA08A_L (TSOP, 8-Leads, Body 3x3mm, Pitch 0.65mm, IPC High Density)
footprint MUA08A_M (TSOP, 8-Leads, Body 3x3mm, Pitch 0.65mm, IPC Low Density)
pins: 1 IN1 (in), 2 IN2 (in), 3 ~{SD} (in), 4 GND (power), 5 VDD (power), 6 VO3 (out), 7 VO2 (out), 8 VO1 (out)

## LM4911LD
designator U?
LM4911 Stereo 40mW Low Noise Headphone Amplifier with Selectable Capacitive Coupled or OCL Output; PartNumber: LM4911LD; Manufacturer: National Semiconductor; CompType: Audio IC; PackageTopMarking: ZXYTT*L4911; Published: 4-Dec-2008; DatasheetVersion: Jul-2008; PackageVersion: revB, Jan-2003; PackageReference: LDA10A; Publisher: Altium Limited; PackageDescription: LLP, Plastic, Dual, 3 x 3 x 0.75mm Body, 10 Lead, 0.5mm Pitch; RoHS: Y; PinCount: 10; DigiKeyPartNumber: LM4911LDCT-ND; ComponentLink1Description: LM4911 Datasheet; ComponentLink1URL: http://www.national.com/ds/LM/LM4911.pdf; ComponentLink2Description: LM4911 Web Page; ComponentLink2URL: http://www.national.com/pf/LM/LM4911.html; ComponentLink3Description: LDA10A Package Page; ComponentLink3URL: http://www.national.com/packaging/folders/lda10a.html
footprint LDA10A (PSON, 10-Leads, Body 3x3mm, Pitch 0.5mm, NSC Recommended)
pins: 1 INA (in), 2 SD (in), 3 MUTE (in), 4 BYPASS, 5 INB (in), 6 GND (power), 7 VOB (out), 8 VOC (out), 9 VOA (out), 10 VDD (power), 11 DAP (power)

## LM4911MM
designator U?
LM4911 Stereo 40mW Low Noise Headphone Amplifier with Selectable Capacitive Coupled or OCL Output; PartNumber: LM4911MM; Manufacturer: National Semiconductor; CompType: Audio IC; PackageTopMarking: ZXTT*GA3; PowerWise: N; Published: 4-Dec-2008; DatasheetVersion: Jul-2008; PackageVersion: revB, Jul-2003; PackageReference: MUB10A; Publisher: Altium Limited; PackageDescription: Mini-SO, Molded, .118 x .118 x .034in Body, 10 Lead, .0197in Pitch; RoHS: O; PinCount: 10; DigiKeyPartNumber: LM4911MMCT-ND; Code_JEDEC: MO-187-BA; ComponentLink1Description: LM4911 Datasheet; ComponentLink1URL: http://www.national.com/ds/LM/LM4911.pdf; ComponentLink2Description: LM4911 Web Page; ComponentLink2URL: http://www.national.com/pf/LM/LM4911.html; ComponentLink3Description: MUB10A Package Page; ComponentLink3URL: http://www.national.com/packaging/folders/mub10a.html
footprint MUB10A_N (TSSOP, 10-Leads, Body 3x3mm, Pitch 0.5mm, IPC Medium Density)
footprint MUB10A_L (TSSOP, 10-Leads, Body 3x3mm, Pitch 0.5mm, IPC High Density)
footprint MUB10A_M (TSSOP, 10-Leads, Body 3x3mm, Pitch 0.5mm, IPC Low Density)
pins: 1 INA (in), 2 SD (in), 3 MUTE (in), 4 BYPASS, 5 INB (in), 6 GND (power), 7 VOB (out), 8 VOC (out), 9 VOA (out), 10 VDD (power)

## LM4912MM
designator U?
LM4912 Stereo 40mW Low Noise Headphone Amplifier; PartNumber: LM4912MM; Manufacturer: National Semiconductor; CompType: Audio IC; PackageTopMarking: ZXTT*GA7; Published: 4-Dec-2008; DatasheetVersion: Jun-2008; PackageVersion: revB, Jul-2003; PackageReference: MUB10A; Publisher: Altium Limited; PackageDescription: Mini-SO, Molded, .118 x .118 x .034in Body, 10 Lead, .0197in Pitch; RoHS: Y; PinCount: 10; DigiKeyPartNumber: LM4912MMCT-ND; Code_JEDEC: MO-187-BA; ComponentLink1Description: LM4912 Datasheet; ComponentLink1URL: http://www.national.com/ds/LM/LM4912.pdf; ComponentLink2Description: LM4912 Web Page; ComponentLink2URL: http://www.national.com/pf/LM/LM4912.html; ComponentLink3Description: MUB10A Package Page; ComponentLink3URL: http://www.national.com/packaging/folders/mub10a.html
footprint MUB10A_N (TSSOP, 10-Leads, Body 3x3mm, Pitch 0.5mm, IPC Medium Density)
footprint MUB10A_L (TSSOP, 10-Leads, Body 3x3mm, Pitch 0.5mm, IPC High Density)
footprint MUB10A_M (TSSOP, 10-Leads, Body 3x3mm, Pitch 0.5mm, IPC Low Density)
pins: 1 INA (in), 2 SD (in), 3 MUTE (in), 4 BYPASS, 5 INB (in), 6 GND (power), 7 VOB (out), 8 GND (power), 9 VOA (out), 10 VDD (power)

## LM4913MH
designator U?
2W Monaural, 90mW Stereo Headphone Audio Amplifier; PartNumber: LM4913MH; Manufacturer: National Semiconductor; CompType: Audio IC; PackageTopMarking: ZXTT*4913; Published: 4-Dec-2008; DatasheetVersion: Apr-2008; PackageVersion: revA, Feb-2002; PackageReference: MXF10A; Publisher: Altium Limited; PackageDescription: Molded TSSOP, Exposed Pad, 3 x 3 x .85mm Body, 10 Lead, 0.5mm Pitch; RoHS: Y; PinCount: 10; DigiKeyPartNumber: LM4913MHCT-ND; Code_JEDEC: MO-187-BA; ComponentLink1Description: LM4913 Datasheet; ComponentLink1URL: http://www.national.com/ds/LM/LM4913.pdf; ComponentLink2Description: LM4913 Web Page; ComponentLink2URL: http://www.national.com/pf/LM/LM4913.html; ComponentLink3Description: MXF10A Package Page; ComponentLink3URL: http://www.national.com/packaging/folders/mxf10a.html
footprint MXF10A_N (TSSOP, 10-Leads, Body 3x3mm, Pitch 0.5mm, Exposed Pad, IPC Medium Density)
footprint MXF10A_L (TSSOP, 10-Leads, Body 3x3mm, Pitch 0.5mm, Exposed Pad, IPC High Density)
footprint MXF10A_M (TSSOP, 10-Leads, Body 3x3mm, Pitch 0.5mm, Exposed Pad, IPC Low Density)
pins: 1 MONO-IN (in), 2 ~{SD} (in), 3 VDD (power), 4 BYPASS, 5 RIN (in), 6 RO/MO+ (out), 7 STEREO/~{MONO} (out), 8 GND (power), 9 LIN (in), 10 LO/MO- (out), 11 DAP (power)

## LM4915LQ
designator U?
LM4915 Pseudo-Differential Mono Headphone Amplifier with Fixed 6dB Gain; PartNumber: LM4915LQ; Manufacturer: National Semiconductor; CompType: Audio IC; PackageTopMarking: XTT*GA5; Published: 4-Dec-2008; DatasheetVersion: May-2003; PackageVersion: revB, Nov-2002; PackageReference: LQB08A; Publisher: Altium Limited; PackageDescription: LLP, Plastic, Quad, 2 x 2 x 0.75mm Body, 8 Lead, 0.65mm Pitch; RoHS: Y; PinCount: 8; DigiKeyPartNumber: LM4915LQ-ND; ComponentLink1Description: LM4915 Datasheet; ComponentLink1URL: http://www.national.com/ds/LM/LM4915.pdf; ComponentLink2Description: LM4915 Web Page; ComponentLink2URL: http://www.national.com/pf/LM/LM4915.html; ComponentLink3Description: LQB08A Package Page; ComponentLink3URL: http://www.national.com/packaging/folders/lqb08a.html
footprint LQB08A (PQFN, 8-Leads, Body 2x2mm, Pitch 0.65mm, NSC Recommended)
pins: 1 SD (in), 2 BYPASS, 3 IN B (in), 4 GND (power), 5 VOB (out), 6 VOA (out), 7 VDD (power), 8 IN A (in), 9 DAP (power)

## LM4916LD
designator U?
1.5V, Mono 85mW BTL Output, 14mW Stereo Headphone Audio Amplifier; PartNumber: LM4916LD; Manufacturer: National Semiconductor; CompType: Audio IC; PackageTopMarking: ZXYTT*L4916; PowerWise: N; Published: 4-Dec-2008; DatasheetVersion: Jul-2006; PackageVersion: revB, Jan-2003; PackageReference: LDA10A; Publisher: Altium Limited; PackageDescription: LLP, Plastic, Dual, 3 x 3 x 0.75mm Body, 10 Lead, 0.5mm Pitch; RoHS: Y; PinCount: 10; DigiKeyPartNumber: LM4916LDCT-ND; ComponentLink1Description: LM4916 Datasheet; ComponentLink1URL: http://www.national.com/ds/LM/LM4916.pdf; ComponentLink2Description: LM4916 Web Page; ComponentLink2URL: http://www.national.com/pf/LM/LM4916.html; ComponentLink3Description: LDA10A Package Page; ComponentLink3URL: http://www.national.com/packaging/folders/lda10a.html
footprint LDA10A (PSON, 10-Leads, Body 3x3mm, Pitch 0.5mm, NSC Recommended)
pins: 1 IN A (in), 2 SD (in), 3 MUTE (in), 4 BYPASS, 5 IN B (in), 6 GND (power), 7 VOB (out), 8 ~{SE}/BTL (in), 9 VOA (out), 10 VDD (power), 11 DAP (power)

## LM4916MM
designator U?
1.5V, Mono 85mW BTL Output, 14mW Stereo Headphone Audio Amplifier; PartNumber: LM4916MM; Manufacturer: National Semiconductor; CompType: Audio IC; PackageTopMarking: ZXTT*GA9; PowerWise: N; Published: 4-Dec-2008; DatasheetVersion: Jul-2006; PackageVersion: revB, Jul-2003; PackageReference: MUB10A; Publisher: Altium Limited; PackageDescription: Mini-SO, Molded, .118 x .118 x .034in Body, 10 Lead, .0197in Pitch; RoHS: Y; PinCount: 10; DigiKeyPartNumber: LM4916MMCT-ND; Code_JEDEC: MO-187-BA; ComponentLink1Description: LM4916 Datasheet; ComponentLink1URL: http://www.national.com/ds/LM/LM4916.pdf; ComponentLink2Description: LM4916 Web Page; ComponentLink2URL: http://www.national.com/pf/LM/LM4916.html; ComponentLink3Description: MUB10A Package Page; ComponentLink3URL: http://www.national.com/packaging/folders/mub10a.html
footprint MUB10A_N (TSSOP, 10-Leads, Body 3x3mm, Pitch 0.5mm, IPC Medium Density)
footprint MUB10A_L (TSSOP, 10-Leads, Body 3x3mm, Pitch 0.5mm, IPC High Density)
footprint MUB10A_M (TSSOP, 10-Leads, Body 3x3mm, Pitch 0.5mm, IPC Low Density)
pins: 1 IN A (in), 2 SD (in), 3 MUTE (in), 4 BYPASS, 5 IN B (in), 6 GND (power), 7 VOB (out), 8 ~{SE}/BTL (in), 9 VOA (out), 10 VDD (power)

## LM4917MT
designator U?
LM4917 Ground-Referenced, 95mW Stereo Headphone Amplifier; PartNumber: LM4917MT; Manufacturer: National Semiconductor; CompType: Audio IC; PackageTopMarking: NSZXYTT*L4917*MT; PowerWise: N; Published: 4-Dec-2008; DatasheetVersion: Nov-2004; PackageVersion: revD, Jun-2003; PackageReference: MTC14; Publisher: Altium Limited; PackageDescription: Molded TSSOP, JEDEC, 5 x 4.4 x 0.9mm Body, 14 Lead, 0.65mm Pitch; RoHS: Y; PinCount: 14; DigiKeyPartNumber: LM4917MT-ND; Code_JEDEC: MO-153-AB-1; ComponentLink1Description: LM4917 Datasheet; ComponentLink1URL: http://www.national.com/ds/LM/LM4917.pdf; ComponentLink2Description: LM4917 Web Page; ComponentLink2URL: http://www.national.com/pf/LM/LM4917.html; ComponentLink3Description: MTC14 Package Page; ComponentLink3URL: http://www.national.com/packaging/folders/mtc14.html
footprint MTC14_N (TSOP, 14-Leads, Body 5x4.4mm, Pitch 0.65mm, IPC Medium Density)
footprint MTC14_L (TSOP, 14-Leads, Body 5x4.4mm, Pitch 0.65mm, IPC High Density)
footprint MTC14_M (TSOP, 14-Leads, Body 5x4.4mm, Pitch 0.65mm, IPC Low Density)
pins: 1 ~{SD_LC} (in), 2 CPVDD (power), 3 CCP+, 4 PGND (power), 5 CCP-, 6 VCP_OUT (power), 7 -AVDD (power), 8 L_OUT (out), 9 AVDD (power), 10 L_IN (in), 11 R_OUT (out), 12 ~{SD_RC} (in), 13 R_IN (in), 14 SGND (power)

## LM4917SD
designator U?
LM4917 Ground-Referenced, 95mW Stereo Headphone Amplifier; PartNumber: LM4917SD; Manufacturer: National Semiconductor; CompType: Audio IC; PackageTopMarking: ZXYTT*L4917; PowerWise: N; Published: 4-Dec-2008; DatasheetVersion: Nov-2004; PackageVersion: revA, Jun-2003; PackageReference: SDA14A; Publisher: Altium Limited; PackageDescription: LLP, Plastic, Dual, 4 x 3 x 0.8mm Body, 14 Lead, 0.5mm Pitch, No Pullback; RoHS: Y; PinCount: 14; DigiKeyPartNumber: LM4917SD-ND; ComponentLink1Description: LM4917 Datasheet; ComponentLink1URL: http://www.national.com/ds/LM/LM4917.pdf; ComponentLink2Description: LM4917 Web Page; ComponentLink2URL: http://www.national.com/pf/LM/LM4917.html; ComponentLink3Description: SDA14A Package Page; ComponentLink3URL: http://www.national.com/packaging/folders/sda14a.html
footprint SDA14A (SON, 14-Leads, Body 4x3mm, Pitch 0.5mm, NSC Recommended)
pins: 1 ~{SD_LC} (in), 2 CPVDD (power), 3 CCP+, 4 PGND (power), 5 CCP-, 6 VCP_OUT (power), 7 -AVDD (power), 8 L_OUT (out), 9 AVDD (power), 10 L_IN (in), 11 R_OUT (out), 12 ~{SD_RC} (in), 13 R_IN (in), 14 SGND (power), 15 DAP (power)

## LM4918LQ
designator U?
Stereo Audio Amp with AGC Control; PartNumber: LM4918LQ; Manufacturer: National Semiconductor; CompType: Audio IC; PackageTopMarking: NS*UZXYTT*L4918LQ; Published: 4-Dec-2008; DatasheetVersion: Feb-2004; PackageVersion: revA, Jun-2001; PackageReference: LQA32B; Publisher: Altium Limited; PackageDescription: LLP, Plastic, Quad, 6 x 5 x 0.8mm Body, 32 Lead, 0.5mm Pitch; RoHS: Y; PinCount: 32; DigiKeyPartNumber: LM4918LQ-ND; Code_JEDEC: MO-220-WJHD; ComponentLink1Description: LM4918 Datasheet; ComponentLink1URL: http://www.national.com/ds/LM/LM4918.pdf; ComponentLink2Description: LM4918 Web Page; ComponentLink2URL: http://www.national.com/pf/LM/LM4918.html; ComponentLink3Description: LQA32B Package Page; ComponentLink3URL: http://www.national.com/packaging/folders/lqa32b.html
footprint LQA32B (PQFN, 32-Leads, Body 6x5mm, Pitch 0.5mm, NSC Recommended)
pins: 1 STDBY (in), 2 NC, 3 C_STDBY, 4 INPUT VTH (in), 5 AGC REF IN (in), 6 R_DISCHARGE, 7 C_HOLD, 8 VPK_IN (in), 9 VPK_BFR (out), 10 VAGC OUT (out), 11 VOLCONTROL IN (in), 12 GND (power), 13 BYPASS, 14 VGA INR (in), 15 VGA OUTR (out), 16 VPALNR (in), 17 VDD (power), 18 NC, 19 VOR- (out), 20 VOR+ (out), 21 GND (power), 22 VOL+ (out), 23 VOL- (out), 24 NC, 25 VDD (power), 26 VPALNL (in), 27 VGA OUTL (out), 28 VGA INL (in), 29 VDD (power), 30 HP SENSE (in), 31 MODE (in), 32 SD (in), 33 DAP (power)

## LM4919MM
designator U?
1.5V, Mono 85mW BTL Output, 14mW Stereo Headphone Audio Amplifier; PartNumber: LM4919MM; Manufacturer: National Semiconductor; CompType: Audio IC; PackageTopMarking: ZXTT*GB6; Published: 4-Dec-2008; DatasheetVersion: May-2004; PackageVersion: revB, Jul-2003; PackageReference: MUB10A; Publisher: Altium Limited; PackageDescription: Mini-SO, Molded, .118 x .118 x .034in Body, 10 Lead, .0197in Pitch; RoHS: Y; PinCount: 10; DigiKeyPartNumber: LM4919MM-ND; Code_JEDEC: MO-187-BA; ComponentLink1Description: LM4919 Datasheet; ComponentLink1URL: http://www.national.com/ds/LM/LM4919.pdf; ComponentLink2Description: LM4919 Web Page; ComponentLink2URL: http://www.national.com/pf/LM/LM4919.html; ComponentLink3Description: MUB10A Package Page; ComponentLink3URL: http://www.national.com/packaging/folders/mub10a.html
footprint MUB10A_N (TSSOP, 10-Leads, Body 3x3mm, Pitch 0.5mm, IPC Medium Density)
footprint MUB10A_L (TSSOP, 10-Leads, Body 3x3mm, Pitch 0.5mm, IPC High Density)
footprint MUB10A_M (TSSOP, 10-Leads, Body 3x3mm, Pitch 0.5mm, IPC Low Density)
pins: 1 IN A (in), 2 SD (in), 3 MUTE (in), 4 BYPASS, 5 IN B (in), 6 GND (power), 7 VOB (out), 8 ~{SE}/BTL (in), 9 VOA (out), 10 VDD (power)

## LM4920TL
designator U?
Ground-Referenced, Ultra Low Noise, Fixed Gain, 80mW Stereo Headphone Amplifier; PartNumber: LM4920TL; Manufacturer: National Semiconductor; CompType: Audio IC; PackageTopMarking: XYTT*I GH4; PowerWise: N; Published: 4-Dec-2008; DatasheetVersion: Oct-2006; PackageVersion: revB, Sep-2004; PackageReference: TLE1411A; Publisher: Altium Limited; PackageDescription: Thin Micro SMD, Depopulated, 14 Bump (Large), 0.5mm Pitch; RoHS: Y; PinCount: 14; DigiKeyPartNumber: LM4920TLCT-ND; Code_JEDEC: MO-211-DF; ComponentLink1Description: LM4920 Datasheet; ComponentLink1URL: http://www.national.com/ds/LM/LM4920.pdf; ComponentLink2Description: LM4920 Web Page; ComponentLink2URL: http://www.national.com/pf/LM/LM4920.html; ComponentLink3Description: TLE1411A Package Page; ComponentLink3URL: http://www.national.com/packaging/folders/tle1411a.html
footprint TLE1411A (Micro SMD, 14-Leads, Body 1.97x1.97mm, Pitch 0.5mm, NSC Recommended)
pins: A1 RIN (in), A2 SGND (power), A3 CPVDD (power), A4 CCP+, B1 ~{SD_RC} (in), B2 ~{SD_LC} (in), B4 PGND (power), C1 LIN (in), C2 ROUT (out), C4 CCP-, D1 AVDD (power), D2 LOUT (out), D3 -AVDD (power), D4 VCP_OUT (power)

## LM4921ITL
designator U?
Low Voltage IS 16-Bit Stereo DAC with Stereo Headphone Power Amplifiers and Volume Control; PartNumber: LM4921ITL; Manufacturer: National Semiconductor; CompType: Audio IC; PackageTopMarking: XYVG*I B9; PowerWise: N; Published: 4-Dec-2008; DatasheetVersion: Nov-2004; PackageVersion: revC, Jan-2004; PackageReference: TLA20JKA; Publisher: Altium Limited; PackageDescription: Thin Micro SMD, 20 Bump (Large), 0.5mm Pitch; RoHS: Y; PinCount: 20; DigiKeyPartNumber: LM4921ITLCT-ND; Code_JEDEC: MO-211-DG; ComponentLink1Description: LM4921 Datasheet; ComponentLink1URL: http://www.national.com/ds/LM/LM4921.pdf; ComponentLink2Description: LM4921 Web Page; ComponentLink2URL: http://www.national.com/pf/LM/LM4921.html; ComponentLink3Description: TLA20JKA Package Page; ComponentLink3URL: http://www.national.com/packaging/folders/tla20jka.html
footprint TLA20JKA (Micro SMD, 20-Leads, Body 2.72x2.2mm, Pitch 0.5mm, NSC Recommended)
pins: A1 GNDD (power), A2 NC OPEN "Must let float", A3 AGND (power), A4 HP_R (out), B1 I2S_CLK (in), B2 I2S_WS (in), B3 HP_L (out), B4 AVDD (power), C1 DVDD (power), C2 I2S_DATA (in), C3 NC, C4 BYPASS, D1 VDDX (power), D2 XTAL_OUT (out), D3 SPI_EN (in), D4 NC, E1 GNDX (power), E2 MCLK/XTAL_IN (in), E3 SPI_CLK (in), E4 SPI_DATA (in)

## LM4923LQ
designator U?
1.1 Watt Fully Differential Audio Power Amplifier With Shutdown Select; PartNumber: LM4923LQ; Manufacturer: National Semiconductor; CompType: Audio IC; PackageTopMarking: XTT*GB2; PowerWise: N; Published: 4-Dec-2008; DatasheetVersion: Dec-2007; PackageVersion: revB, Nov-2002; PackageReference: LQB08A; Publisher: Altium Limited; PackageDescription: LLP, Plastic, Quad, 2 x 2 x 0.75mm Body, 8 Lead, 0.65mm Pitch; RoHS: Y; PinCount: 8; DigiKeyPartNumber: LM4923LQCT-ND; ComponentLink1Description: LM4923 Datasheet; ComponentLink1URL: http://www.national.com/ds/LM/LM4923.pdf; ComponentLink2Description: LM4923 Web Page; ComponentLink2URL: http://www.national.com/pf/LM/LM4923.html; ComponentLink3Description: LQB08A Package Page; ComponentLink3URL: http://www.national.com/packaging/folders/lqb08a.html
footprint LQB08A (PQFN, 8-Leads, Body 2x2mm, Pitch 0.65mm, NSC Recommended)
pins: 1 IN- (in), 2 IN+ (in), 3 VDD (power), 4 VO+ (out), 5 SD (in), 6 BYPASS, 7 GND (power), 8 VO- (out), 9 DAP (power)

## LM4923MM
designator U?
1.1 Watt Fully Differential Audio Power Amplifier With Shutdown Select; PartNumber: LM4923MM; Manufacturer: National Semiconductor; CompType: Audio IC; PackageTopMarking: ZXTT*GC8; PowerWise: N; Published: 4-Dec-2008; DatasheetVersion: Dec-2007; PackageVersion: revF, Apr-2008; PackageReference: MUA08A; Publisher: Altium Limited; PackageDescription: MINI SOIC, .118 x .118 x .034in, 8 Lead, .0256in Pitch; RoHS: Y; PinCount: 8; DigiKeyPartNumber: LM4923MMCT-ND; Code_JEDEC: MO-187-AA; ComponentLink1Description: LM4923 Datasheet; ComponentLink1URL: http://www.national.com/ds/LM/LM4923.pdf; ComponentLink2Description: LM4923 Web Page; ComponentLink2URL: http://www.national.com/pf/LM/LM4923.html; ComponentLink3Description: MUA08A Package Page; ComponentLink3URL: http://www.national.com/packaging/folders/mua08a.html
footprint MUA08A_N (TSOP, 8-Leads, Body 3x3mm, Pitch 0.65mm, IPC Medium Density)
footprint MUA08A_L (TSOP, 8-Leads, Body 3x3mm, Pitch 0.65mm, IPC High Density)
footprint MUA08A_M (TSOP, 8-Leads, Body 3x3mm, Pitch 0.65mm, IPC Low Density)
pins: 1 IN- (in), 2 IN+ (in), 3 VDD (power), 4 VO+ (out), 5 SD (in), 6 BYPASS, 7 GND (power), 8 VO- (out)